# EAGLE library part SAA6579 (library akil)
RDS Demodulator demodulator decodes the mux signal to retrieve rds data
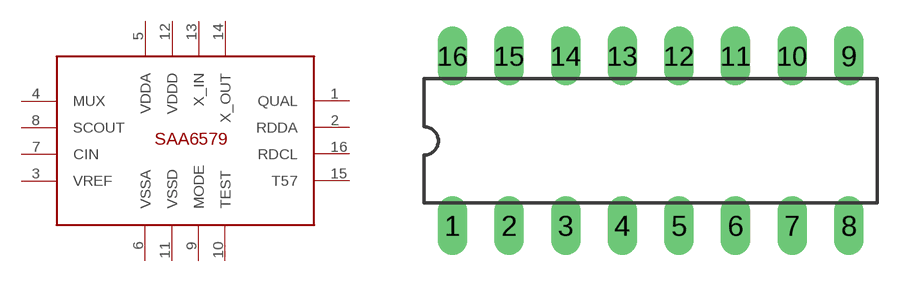
[diagram p0: symbol with the pads of DIL16; footprint DIL16]

Designator prefix -

## SAA6579  [DIL16]
1  QUAL
2  RDDA
3  VREF
4  MUX
5  VDDA
6  VSSA
7  CIN
8  SCOUT
9  MODE
10  TEST
11  VSSD
12  VDDD
13  X_IN
14  X_OUT
15  T57
16  RDCL

## Footprint DIL16 (pad centres in mm)
Dual Inline Package 16 PIN
drill 0.813 long: 1 -8.89,-2.54; 2 -6.35,-2.54; 3 -3.81,-2.54; 4 -1.27,-2.54; 5 1.27,-2.54; 6 3.81,-2.54; 7 6.35,-2.54; 8 8.89,-2.54; 9 8.89,5.08; 10 6.35,5.08; 11 3.81,5.08; 12 1.27,5.08; 13 -1.27,5.08; 14 -3.81,5.08; 15 -6.35,5.08; 16 -8.89,5.08